# Altium schematic symbol library 56 RESISTORS_THD_AX14_8mm_S.SchLib: 9 symbols
Pins are listed as number, name and electrical type; pins without a type are passive.

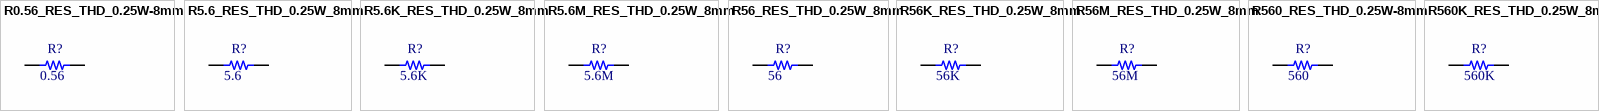
[diagram p0: symbols R0.56_RES_THD_0.25W-8mm to R560K_RES_THD_0.25W_8mm]

## R0.56_RES_THD_0.25W-8mm
designator R?  value 0.56  (hidden comment: *)
RESISTOR_0.56Ohm_THD_0.25W-8mm; Pacakge: THT; Rating: 0.25W; Type: 5%
footprint R0.56_RES_THD_AX14_0.25W (RESISTOR 0.56 Ohm  THD AX14 0.25W Length  8mm)
pins: 1, 2

## R5.6_RES_THD_0.25W_8mm
designator R?  value 5.6  (hidden comment: *)
RESISTOR_5.6Ohm_THD_0.25W-8mm; Pacakge: THT; Rating: 0.25W; Type: 5%
footprint R5.6_RES_THD_AX14_0.25W (RESISTOR 5.6 Ohm  THD AX14 0.25W Length  8mm)
pins: 1, 2

## R5.6K_RES_THD_0.25W_8mm
designator R?  value 5.6K  (hidden comment: *)
RESISTOR_5.6KOhm_THD_0.25W-8mm; Pacakge: THT; Rating: 0.25W; Type: 5%
footprint R5.6K_RES_THD_AX14_0.25W (RESISTOR 5.6K Ohm  THD AX14 0.25W Length  8mm)
pins: 1, 2

## R5.6M_RES_THD_0.25W_8mm
designator R?  value 5.6M  (hidden comment: *)
RESISTOR_5.6MOhm_THD_0.25W-8mm; Pacakge: THT; Rating: 0.25W; Type: 5%
footprint R5.6M_RES_THD_AX14_0.25W (RESISTOR 5.6M Ohm  THD AX14 0.25W Length  8mm)
pins: 1, 2

## R56_RES_THD_0.25W_8mm
designator R?  value 56  (hidden comment: *)
RESISTOR_56Ohm_THD_0.25W-8mm; Pacakge: THT; Rating: 0.25W; Type: 5%; Parameter 1: *
footprint R56_RES_THD_AX14_0.25W (RESISTOR 56 Ohm  THD AX14 0.25W Length  8mm)
pins: 1, 2

## R56K_RES_THD_0.25W_8mm
designator R?  value 56K  (hidden comment: *)
RESISTOR_56KOhm_THD_0.25W-8mm; Pacakge: THT; Rating: 0.25W; Type: 5%
footprint R56K_RES_THD_AX14_0.25W (RESISTOR 56K Ohm  THD AX14 0.25W Length  8mm)
pins: 1, 2

## R56M_RES_THD_0.25W_8mm
designator R?  value 56M  (hidden comment: *)
RESISTOR_56MOhm_THD_0.25W-8mm; Pacakge: THT; Rating: 0.25W; Type: 5%
footprint R56M_RES_THD_AX14_0.25W (RESISTOR 56M Ohm  THD AX14 0.25W Length  8mm)
pins: 1, 2

## R560_RES_THD_0.25W-8mm
designator R?  value 560  (hidden comment: *)
RESISTOR_560Ohm_THD_0.25W-8mm; Pacakge: THT; Rating: 0.25W; Type: 5%; Parameter 1: *
footprint R560_RES_THD_AX14_0.25W (RESISTOR 560 Ohm  THD AX14 0.25W Length  8mm)
pins: 1, 2

## R560K_RES_THD_0.25W_8mm
designator R?  value 560K  (hidden comment: *)
RESISTOR_560KOhm_THD_0.25W-8mm; Pacakge: THT; Rating: 0.25W; Type: 5%
footprint R560K_RES_THD_AX14_0.25W (RESISTOR 560K Ohm  THD AX14 0.25W Length  8mm)
pins: 1, 2